# EAGLE library part TI60F225C4 (library ICs)
Titanium™ Field Programmable Gate Array (FPGA) IC 163 2726298 62016 225-BGA
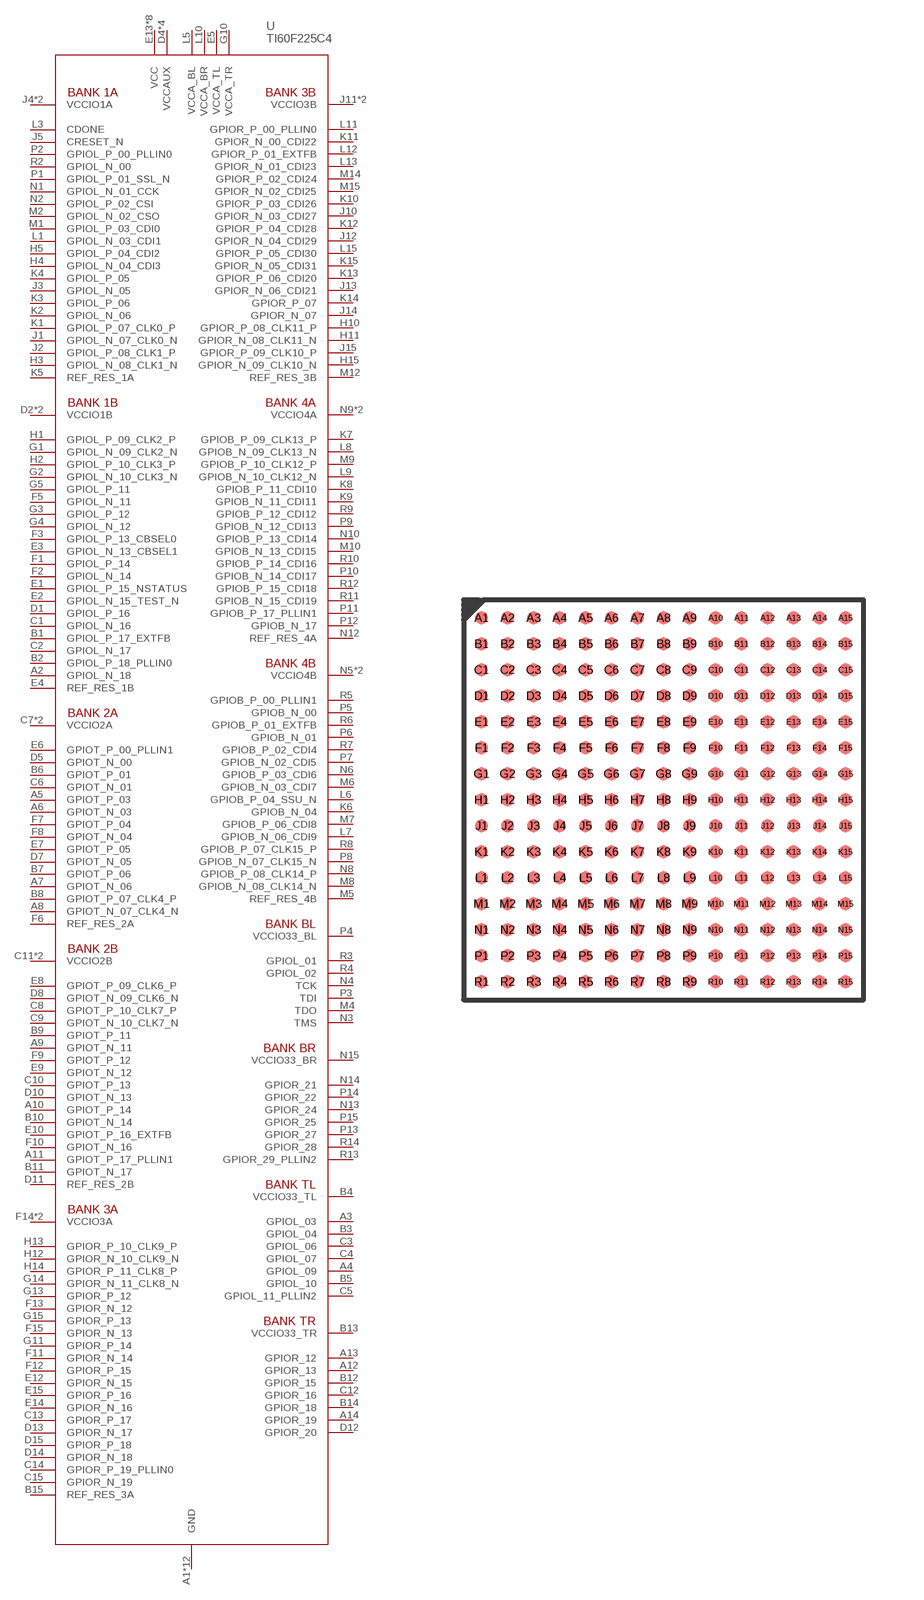
[diagram p313: symbol with the pads of FBGA225; footprint FBGA225]

Designator prefix U

## TI60F225C4 (DIGIKEY: 2134-TI60F225C4-ND; HEIGHT: 1; PRICE_PER: 24.27; VALUE: Ti60F225C4)  [FBGA225]
A1  GND
A2  GPIOL_N_18
A3  GPIOL_03
A4  GPIOL_09
A5  GPIOT_P_03
A6  GPIOT_N_03
A7  GPIOT_N_06
A8  GPIOT_N_07_CLK4_N
A9  GPIOT_N_11
A10  GPIOT_P_14
A11  GPIOT_P_17_PLLIN1
A12  GPIOR_13
A13  GPIOR_12
A14  GPIOR_19
A15  GND
B1  GPIOL_P_17_EXTFB
B2  GPIOL_P_18_PLLIN0
B3  GPIOL_04
B4  VCCIO33_TL
B5  GPIOL_10
B6  GPIOT_P_01
B7  GPIOT_P_06
B8  GPIOT_P_07_CLK4_P
B9  GPIOT_P_11
B10  GPIOT_N_14
B11  GPIOT_N_17
B12  GPIOR_15
B13  VCCIO33_TR
B14  GPIOR_18
B15  REF_RES_3A
C1  GPIOL_N_16
C2  GPIOL_N_17
C3  GPIOL_06
C4  GPIOL_07
C5  GPIOL_11_PLLIN2
C6  GPIOT_N_01
C7  VCCIO2A
C8  GPIOT_P_10_CLK7_P
C9  GPIOT_N_10_CLK7_N
C10  GPIOT_P_13
C11  VCCIO2B
C12  GPIOR_16
C13  GPIOR_P_17
C14  GPIOR_P_19_PLLIN0
C15  GPIOR_N_19
D1  GPIOL_P_16
D2  VCCIO1B
D3  GND
D4  VCCAUX
D5  GPIOT_N_00
D6  VCCIO2A
D7  GPIOT_N_05
D8  GPIOT_N_09_CLK6_N
D9  VCCIO2B
D10  GPIOT_N_13
D11  REF_RES_2B
D12  GPIOR_20
D13  GPIOR_N_17
D14  GPIOR_N_18
D15  GPIOR_P_18
E1  GPIOL_P_15_NSTATUS
E2  GPIOL_N_15_TEST_N
E3  GPIOL_N_13_CBSEL1
E4  REF_RES_1B
E5  VCCA_TL
E6  GPIOT_P_00_PLLIN1
E7  GPIOT_P_05
E8  GPIOT_P_09_CLK6_P
E9  GPIOT_N_12
E10  GPIOT_P_16_EXTFB
E11  VCCAUX
E12  GPIOR_N_15
E13  VCC
E14  GPIOR_N_16
E15  GPIOR_P_16
F1  GPIOL_P_14
F2  GPIOL_N_14
F3  GPIOL_P_13_CBSEL0
F4  VCCIO1B
F5  GPIOL_N_11
F6  REF_RES_2A
F7  GPIOT_P_04
F8  GPIOT_N_04
F9  GPIOT_P_12
F10  GPIOT_N_16
F11  GPIOR_N_14
F12  GPIOR_P_15
F13  GPIOR_N_12
F14  VCCIO3A
F15  GPIOR_N_13
G1  GPIOL_N_09_CLK2_N
G2  GPIOL_N_10_CLK3_N
G3  GPIOL_P_12
G4  GPIOL_N_12
G5  GPIOL_P_11
G6  GND
G7  VCC
G8  GND
G9  VCC
G10  VCCA_TR
G11  GPIOR_P_14
G12  VCCIO3A
G13  GPIOR_P_12
G14  GPIOR_N_11_CLK8_N
G15  GPIOR_P_13
H1  GPIOL_P_09_CLK2_P
H2  GPIOL_P_10_CLK3_P
H3  GPIOL_N_08_CLK1_N
H4  GPIOL_N_04_CDI3
H5  GPIOL_P_04_CDI2
H6  VCC
H7  GND
H8  VCC
H9  GND
H10  GPIOR_P_08_CLK11_P
H11  GPIOR_N_08_CLK11_N
H12  GPIOR_N_10_CLK9_N
H13  GPIOR_P_10_CLK9_P
H14  GPIOR_P_11_CLK8_P
H15  GPIOR_N_09_CLK10_N
J1  GPIOL_N_07_CLK0_N
J2  GPIOL_P_08_CLK1_P
J3  GPIOL_N_05
J4  VCCIO1A
J5  CRESET_N
J6  GND
J7  VCC
J8  GND
J9  VCC
J10  GPIOR_N_03_CDI27
J11  VCCIO3B
J12  GPIOR_N_04_CDI29
J13  GPIOR_N_06_CDI21
J14  GPIOR_N_07
J15  GPIOR_P_09_CLK10_P
K1  GPIOL_P_07_CLK0_P
K2  GPIOL_N_06
K3  GPIOL_P_06
K4  GPIOL_P_05
K5  REF_RES_1A
K6  GPIOB_N_04
K7  GPIOB_P_09_CLK13_P
K8  GPIOB_P_11_CDI10
K9  GPIOB_N_11_CDI11
K10  GPIOR_P_03_CDI26
K11  GPIOR_N_00_CDI22
K12  GPIOR_P_04_CDI28
K13  GPIOR_P_06_CDI20
K14  GPIOR_P_07
K15  GPIOR_N_05_CDI31
L1  GPIOL_N_03_CDI1
L2  VCCIO1A
L3  CDONE
L4  VCCAUX
L5  VCCA_BL
L6  GPIOB_P_04_SSU_N
L7  GPIOB_N_06_CDI9
L8  GPIOB_N_09_CLK13_N
L9  GPIOB_N_10_CLK12_N
L10  VCCA_BR
L11  GPIOR_P_00_PLLIN0
L12  GPIOR_P_01_EXTFB
L13  GPIOR_N_01_CDI23
L14  VCCIO3B
L15  GPIOR_P_05_CDI30
M1  GPIOL_P_03_CDI0
M2  GPIOL_N_02_CSO
M3  VCC
M4  TDO
M5  REF_RES_4B
M6  GPIOB_N_03_CDI7
M7  GPIOB_P_06_CDI8
M8  GPIOB_N_08_CLK14_N
M9  GPIOB_P_10_CLK12_P
M10  GPIOB_N_13_CDI15
M11  VCCAUX
M12  REF_RES_3B
M13  GND
M14  GPIOR_P_02_CDI24
M15  GPIOR_N_02_CDI25
N1  GPIOL_N_01_CCK
N2  GPIOL_P_02_CSI
N3  TMS
N4  TCK
N5  VCCIO4B
N6  GPIOB_P_03_CDI6
N7  VCCIO4B
N8  GPIOB_P_08_CLK14_P
N9  VCCIO4A
N10  GPIOB_P_13_CDI14
N11  VCCIO4A
N12  REF_RES_4A
N13  GPIOR_24
N14  GPIOR_21
N15  VCCIO33_BR
P1  GPIOL_P_01_SSL_N
P2  GPIOL_P_00_PLLIN0
P3  TDI
P4  VCCIO33_BL
P5  GPIOB_N_00
P6  GPIOB_N_01
P7  GPIOB_N_02_CDI5
P8  GPIOB_N_07_CLK15_N
P9  GPIOB_N_12_CDI13
P10  GPIOB_N_14_CDI17
P11  GPIOB_P_17_PLLIN1
P12  GPIOB_N_17
P13  GPIOR_27
P14  GPIOR_22
P15  GPIOR_25
R1  GND
R2  GPIOL_N_00
R3  GPIOL_01
R4  GPIOL_02
R5  GPIOB_P_00_PLLIN1
R6  GPIOB_P_01_EXTFB
R7  GPIOB_P_02_CDI4
R8  GPIOB_P_07_CLK15_P
R9  GPIOB_P_12_CDI12
R10  GPIOB_P_14_CDI16
R11  GPIOB_N_15_CDI19
R12  GPIOB_P_15_CDI18
R13  GPIOR_29_PLLIN2
R14  GPIOR_28
R15  GND

## Footprint FBGA225 (pad centres in mm)
smd 0.325 x 0.325: A1 -4.55,4.55; A2 -3.9,4.55; A3 -3.25,4.55; A4 -2.6,4.55; A5 -1.95,4.55; A6 -1.3,4.55; A7 -0.65,4.55; A8 0,4.55; A9 0.65,4.55; A10 1.3,4.55; A11 1.95,4.55; A12 2.6,4.55; A13 3.25,4.55; A14 3.9,4.55; A15 4.55,4.55; B1 -4.55,3.9; B2 -3.9,3.9; B3 -3.25,3.9; B4 -2.6,3.9; B5 -1.95,3.9; B6 -1.3,3.9; B7 -0.65,3.9; B8 0,3.9; B9 0.65,3.9; B10 1.3,3.9; B11 1.95,3.9; B12 2.6,3.9; B13 3.25,3.9; B14 3.9,3.9; B15 4.55,3.9; C1 -4.55,3.25; C2 -3.9,3.25; C3 -3.25,3.25; C4 -2.6,3.25; C5 -1.95,3.25; C6 -1.3,3.25; C7 -0.65,3.25; C8 0,3.25; C9 0.65,3.25; C10 1.3,3.25; C11 1.95,3.25; C12 2.6,3.25; C13 3.25,3.25; C14 3.9,3.25; C15 4.55,3.25; D1 -4.55,2.6; D2 -3.9,2.6; D3 -3.25,2.6; D4 -2.6,2.6; D5 -1.95,2.6; D6 -1.3,2.6; D7 -0.65,2.6; D8 0,2.6; D9 0.65,2.6; D10 1.3,2.6; D11 1.95,2.6; D12 2.6,2.6; D13 3.25,2.6; D14 3.9,2.6; D15 4.55,2.6; E1 -4.55,1.95; E2 -3.9,1.95; E3 -3.25,1.95; E4 -2.6,1.95; E5 -1.95,1.95; E6 -1.3,1.95; E7 -0.65,1.95; E8 0,1.95; E9 0.65,1.95; E10 1.3,1.95; E11 1.95,1.95; E12 2.6,1.95; E13 3.25,1.95; E14 3.9,1.95; E15 4.55,1.95; F1 -4.55,1.3; F2 -3.9,1.3; F3 -3.25,1.3; F4 -2.6,1.3; F5 -1.95,1.3; F6 -1.3,1.3; F7 -0.65,1.3; F8 0,1.3; F9 0.65,1.3; F10 1.3,1.3; F11 1.95,1.3; F12 2.6,1.3; F13 3.25,1.3; F14 3.9,1.3; F15 4.55,1.3; G1 -4.55,0.65; G2 -3.9,0.65; G3 -3.25,0.65; G4 -2.6,0.65; G5 -1.95,0.65; G6 -1.3,0.65; G7 -0.65,0.65; G8 0,0.65; G9 0.65,0.65; G10 1.3,0.65; G11 1.95,0.65; G12 2.6,0.65; G13 3.25,0.65; G14 3.9,0.65; G15 4.55,0.65; H1 -4.55,0; H2 -3.9,0; H3 -3.25,0; H4 -2.6,0; H5 -1.95,0; H6 -1.3,0; H7 -0.65,0; H8 0,0; H9 0.65,0; H10 1.3,0; H11 1.95,0; H12 2.6,0; H13 3.25,0; H14 3.9,0; H15 4.55,0; J1 -4.55,-0.65; J2 -3.9,-0.65; J3 -3.25,-0.65; J4 -2.6,-0.65; J5 -1.95,-0.65; J6 -1.3,-0.65; J7 -0.65,-0.65; J8 0,-0.65; J9 0.65,-0.65; J10 1.3,-0.65; J11 1.95,-0.65; J12 2.6,-0.65; J13 3.25,-0.65; J14 3.9,-0.65; J15 4.55,-0.65; K1 -4.55,-1.3; K2 -3.9,-1.3; K3 -3.25,-1.3; K4 -2.6,-1.3; K5 -1.95,-1.3; K6 -1.3,-1.3; K7 -0.65,-1.3; K8 0,-1.3; K9 0.65,-1.3; K10 1.3,-1.3; K11 1.95,-1.3; K12 2.6,-1.3; K13 3.25,-1.3; K14 3.9,-1.3; K15 4.55,-1.3; L1 -4.55,-1.95; L2 -3.9,-1.95; L3 -3.25,-1.95; L4 -2.6,-1.95; L5 -1.95,-1.95; L6 -1.3,-1.95; L7 -0.65,-1.95; L8 0,-1.95; L9 0.65,-1.95; L10 1.3,-1.95; L11 1.95,-1.95; L12 2.6,-1.95; L13 3.25,-1.95; L14 3.9,-1.95; L15 4.55,-1.95; M1 -4.55,-2.6; M2 -3.9,-2.6; M3 -3.25,-2.6; M4 -2.6,-2.6; M5 -1.95,-2.6; M6 -1.3,-2.6; M7 -0.65,-2.6; M8 0,-2.6; M9 0.65,-2.6; M10 1.3,-2.6; M11 1.95,-2.6; M12 2.6,-2.6; M13 3.25,-2.6; M14 3.9,-2.6; M15 4.55,-2.6; N1 -4.55,-3.25; N2 -3.9,-3.25; N3 -3.25,-3.25; N4 -2.6,-3.25; N5 -1.95,-3.25; N6 -1.3,-3.25; N7 -0.65,-3.25; N8 0,-3.25; N9 0.65,-3.25; N10 1.3,-3.25; N11 1.95,-3.25; N12 2.6,-3.25; N13 3.25,-3.25; N14 3.9,-3.25; N15 4.55,-3.25; P1 -4.55,-3.9; P2 -3.9,-3.9; P3 -3.25,-3.9; P4 -2.6,-3.9; P5 -1.95,-3.9; P6 -1.3,-3.9; P7 -0.65,-3.9; P8 0,-3.9; P9 0.65,-3.9; P10 1.3,-3.9; P11 1.95,-3.9; P12 2.6,-3.9; P13 3.25,-3.9; P14 3.9,-3.9; P15 4.55,-3.9; R1 -4.55,-4.55; R2 -3.9,-4.55; R3 -3.25,-4.55; R4 -2.6,-4.55; R5 -1.95,-4.55; R6 -1.3,-4.55; R7 -0.65,-4.55; R8 0,-4.55; R9 0.65,-4.55; R10 1.3,-4.55; R11 1.95,-4.55; R12 2.6,-4.55; R13 3.25,-4.55; R14 3.9,-4.55; R15 4.55,-4.55